# Altium footprint library WCAP-FTBP.PcbLib: 26 footprints (part 2 of 2)
Each footprint in its own frame and in the unit in brackets; x right, y up, seen from the top. Pads: shape width x height; smd on the part's side, far side on the other; paste and mask are expansions set on the pad; w line width, h text height; cw(c..) or ccw(c..) is an arc to the next point about the centre after c.
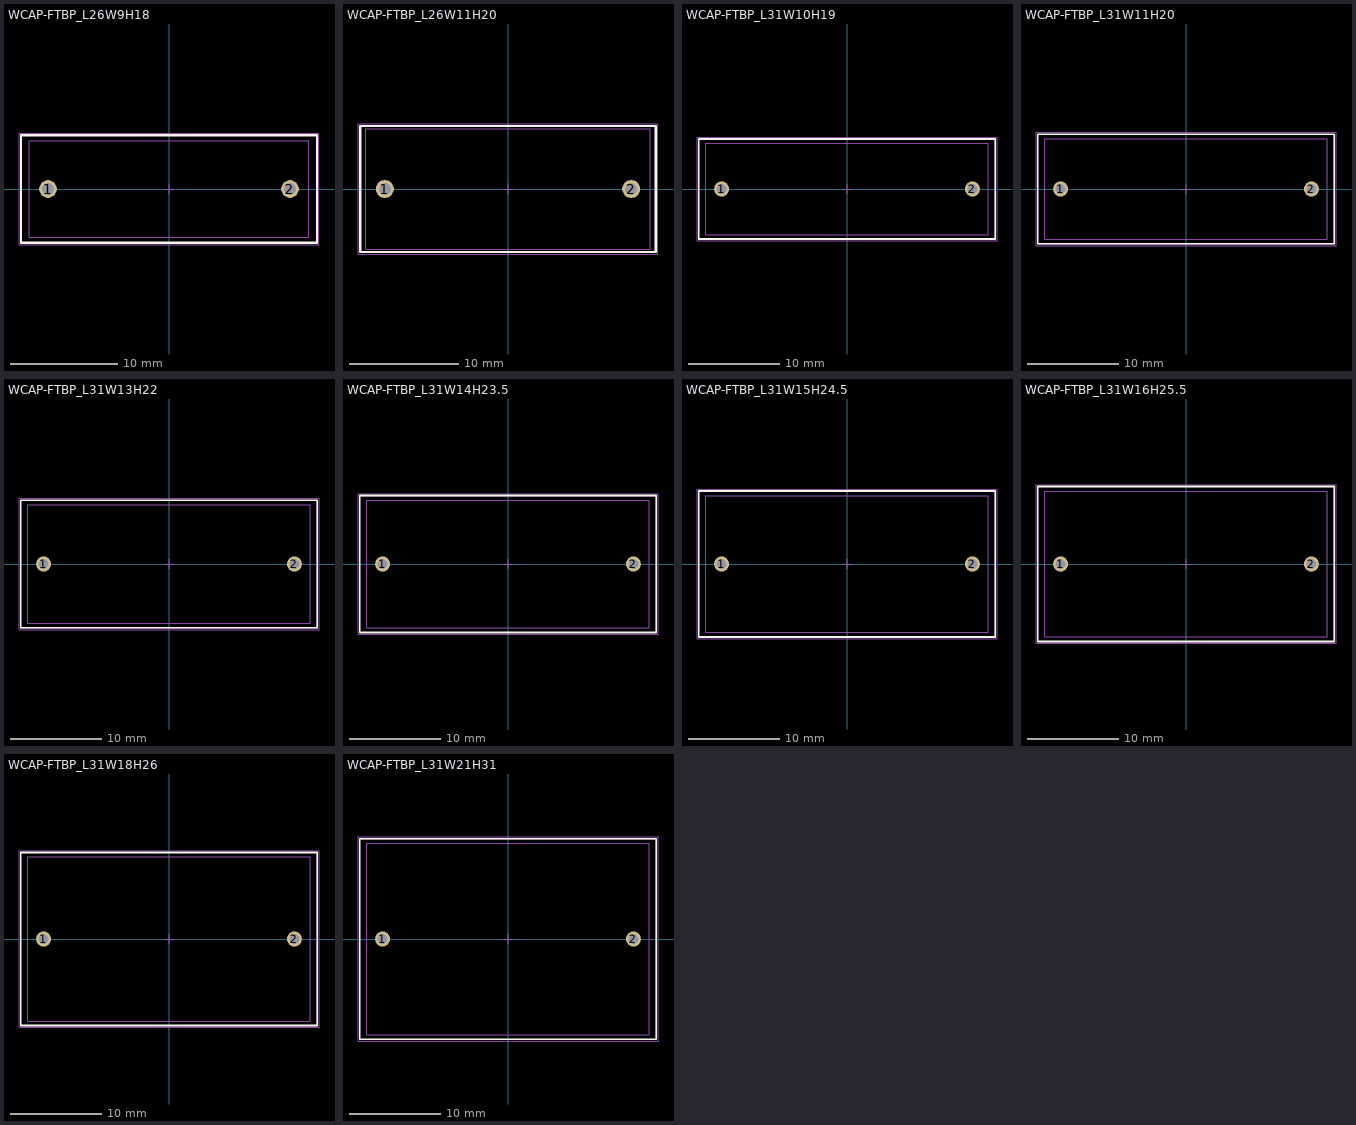
[diagram p1: the footprints below, top view; thin cyan lines are the x and y axes]

## WCAP-FTBP_L26W9H18 [mm] "Film Capacitors, 26.00 x 9.00 mm"
height 18
pads (2):
  round 1.65 hole 1.1: 1(-11.25,0) 2(11.25,0)
Top Overlay:
  lines w0.2: -13.75,-5 13.75,-5 13.75,5 -13.75,5 -13.75,-5
Top Assembly:
  lines w0.1: -13.75,-5 13.75,-5 13.75,5 -13.75,5 -13.75,-5
Top Designator:
  text ".Designator" at -3.647,-0.357 h1
Top 3D Body:
  lines w0.1: -13,-4.5 13,-4.5 13,4.5 -13,4.5 -13,-4.5
Top Courtyard:
  lines w0.05: -13.95,-5.2 13.95,-5.2 13.95,5.2 -13.95,5.2 -13.95,-5.2
Top Component Center:
  lines w0.1: -0.5,0 0.5,0 ; 0,-0.5 0,0.5
3D body "22,5x26x9x18.stp": height 18.05, standoff -3.95, extent -13,-4.5 13,4.5

## WCAP-FTBP_L26W11H20 [mm] "Film Capacitors, 26.00 x 11.00 mm"
height 20
pads (2):
  round 1.65 hole 1.1: 1(-11.25,0) 2(11.25,0)
Top Overlay:
  lines w0.2: -13.5,-5.75 -13.5,5.75 13.5,5.75 13.5,-5.75 -13.5,-5.75
Top Assembly:
  lines w0.1: -13.5,-5.75 -13.5,5.75 13.5,5.75 13.5,-5.75 -13.5,-5.75
Top Designator:
  text ".Designator" at -3.647,-0.357 h1
Top 3D Body:
  lines w0.1: -13,-5.5 -13,5.5 13,5.5 13,-5.5 -13,-5.5
Top Courtyard:
  lines w0.05: -13.7,-5.95 -13.7,5.95 13.7,5.95 13.7,-5.95 -13.7,-5.95
Top Component Center:
  lines w0.1: -0.5,0 0.5,0 ; 0,-0.5 0,0.5
3D body "22,5x26x11x20.stp": height 20.1, standoff -3.9, extent -13,-5.5 13,5.5

## WCAP-FTBP_L31W10H19 [mm] "Film Capacitors, 31.00 x 10.00 mm"
height 19
pads (2):
  round 1.65 hole 1.1: 1(-13.75,0) 2(13.75,0)
Top Overlay:
  lines w0.2: -16.25,-5.5 -16.25,5.5 16.25,5.5 16.25,-5.5 -16.25,-5.5
Top Assembly:
  lines w0.1: -16.25,-5.5 -16.25,5.5 16.25,5.5 16.25,-5.5 -16.25,-5.5
Top Designator:
  text ".Designator" at -3.647,-0.357 h1
Top 3D Body:
  lines w0.1: -15.5,-5 15.5,-5 15.5,5 -15.5,5 -15.5,-5
Top Courtyard:
  lines w0.05: -16.45,-5.7 16.45,-5.7 16.45,5.7 -16.45,5.7 -16.45,-5.7
Top Component Center:
  lines w0.1: -0.5,0 0.5,0 ; 0,-0.5 0,0.5
3D body "27,5x31x10x19.stp": height 19.05, standoff -3.95, extent -15.5,-5 15.5,5

## WCAP-FTBP_L31W11H20 [mm] "Film Capacitors, 31.00 x 11.00 mm"
height 20
pads (2):
  round 1.65 hole 1.1: 1(-13.75,0) 2(13.75,0)
Top Overlay:
  lines w0.2: -16.25,-6 16.25,-6 16.25,6 -16.25,6 -16.25,-6
Top Assembly:
  lines w0.1: -16.25,-6 16.25,-6 16.25,6 -16.25,6 -16.25,-6
Top Designator:
  text ".Designator" at -3.647,-0.357 h1
Top 3D Body:
  lines w0.1: -15.5,-5.5 -15.5,5.5 15.5,5.5 15.5,-5.5 -15.5,-5.5
Top Courtyard:
  lines w0.05: -16.45,-6.2 16.45,-6.2 16.45,6.2 -16.45,6.2 -16.45,-6.2
Top Component Center:
  lines w0.1: -0.5,0 0.5,0 ; 0,-0.5 0,0.5
3D body "27,5x31x11x20.stp": height 20.1, standoff -3.9, extent -15.5,-5.5 15.5,5.5

## WCAP-FTBP_L31W13H22 [mm] "Film Capacitors, 31.00 x 13.00 mm"
height 22
pads (2):
  round 1.65 hole 1.1: 1(-13.75,0) 2(13.75,0)
Top Overlay:
  lines w0.2: -16.25,-7 16.25,-7 16.25,7 -16.25,7 -16.25,-7
Top Assembly:
  lines w0.1: -16.25,-7 16.25,-7 16.25,7 -16.25,7 -16.25,-7
Top Designator:
  text ".Designator" at -3.647,-0.357 h1
Top 3D Body:
  lines w0.1: -15.5,-6.5 -15.5,6.5 15.5,6.5 15.5,-6.5 -15.5,-6.5
Top Courtyard:
  lines w0.05: -16.45,-7.2 16.45,-7.2 16.45,7.2 -16.45,7.2 -16.45,-7.2
Top Component Center:
  lines w0.1: -0.5,0 0.5,0 ; 0,-0.5 0,0.5
3D body "27,5x31x13x22.stp": height 22.05, standoff -3.95, extent -15.5,-6.5 15.5,6.5

## WCAP-FTBP_L31W14H23.5 [mm] "Film Capacitors, 31.00 x 14.00 mm"
height 23.5
pads (2):
  round 1.65 hole 1.1: 1(-13.75,0) 2(13.75,0)
Top Overlay:
  lines w0.2: -16.25,-7.5 -16.25,7.5 16.25,7.5 16.25,-7.5 -16.25,-7.5
Top Assembly:
  lines w0.1: -16.25,-7.5 -16.25,7.5 16.25,7.5 16.25,-7.5 -16.25,-7.5
Top Designator:
  text ".Designator" at -3.647,-0.357 h1
Top 3D Body:
  lines w0.1: -15.5,-7 15.5,-7 15.5,7 -15.5,7 -15.5,-7
Top Courtyard:
  lines w0.05: -16.45,-7.7 -16.45,7.7 16.45,7.7 16.45,-7.7 -16.45,-7.7
Top Component Center:
  lines w0.1: -0.5,0 0.5,0 ; 0,-0.5 0,0.5
3D body "27,5x31x14x23,5.stp": height 23.55, standoff -3.95, extent -15.5,-7 15.5,7

## WCAP-FTBP_L31W15H24.5 [mm] "Film Capacitors, 31.00 x 15.00 mm"
height 24.5
pads (2):
  round 1.65 hole 1.1: 1(-13.75,0) 2(13.75,0)
Top Overlay:
  lines w0.2: -16.25,-8 16.25,-8 16.25,8 -16.25,8 -16.25,-8
Top Assembly:
  lines w0.1: -16.25,-8 16.25,-8 16.25,8 -16.25,8 -16.25,-8
Top Designator:
  text ".Designator" at -3.647,-0.357 h1
Top 3D Body:
  lines w0.1: -15.5,-7.5 -15.5,7.5 15.5,7.5 15.5,-7.5 -15.5,-7.5
Top Courtyard:
  lines w0.05: -16.45,-8.2 -16.45,8.2 16.45,8.2 16.45,-8.2 -16.45,-8.2
Top Component Center:
  lines w0.1: -0.5,0 0.5,0 ; 0,-0.5 0,0.5
3D body "27,5x31x15x24,5.stp": height 24.55, standoff -3.95, extent -15.5,-7.5 15.5,7.5

## WCAP-FTBP_L31W16H25.5 [mm] "Film Capacitors, 31.00 x 16.00 mm"
height 25.5
pads (2):
  round 1.65 hole 1.1: 1(-13.75,0) 2(13.75,0)
Top Overlay:
  lines w0.2: -16.25,-8.5 -16.25,8.5 16.25,8.5 16.25,-8.5 -16.25,-8.5
Top Assembly:
  lines w0.1: -16.25,-8.5 -16.25,8.5 16.25,8.5 16.25,-8.5 -16.25,-8.5
Top Designator:
  text ".Designator" at -3.647,-0.357 h1
Top 3D Body:
  lines w0.1: -15.5,-8 -15.5,8 15.5,8 15.5,-8 -15.5,-8
Top Courtyard:
  lines w0.05: -16.45,-8.7 16.45,-8.7 16.45,8.7 -16.45,8.7 -16.45,-8.7
Top Component Center:
  lines w0.1: -0.5,0 0.5,0 ; 0,-0.5 0,0.5
3D body "27,5x31x16x25,5.stp": height 25.55, standoff -3.95, extent -15.5,-8 15.5,8

## WCAP-FTBP_L31W18H26 [mm] "Film Capacitors, 31.00 x 18.00mm"
height 26
pads (2):
  round 1.65 hole 1.1: 1(-13.75,0) 2(13.75,0)
Top Overlay:
  lines w0.2: -16.25,-9.5 -16.25,9.5 16.25,9.5 16.25,-9.5 -16.25,-9.5
Top Assembly:
  lines w0.1: -16.25,-9.5 -16.25,9.5 16.25,9.5 16.25,-9.5 -16.25,-9.5
Top Designator:
  text ".Designator" at -3.647,-0.357 h1
Top 3D Body:
  lines w0.1: -15.5,-9 15.5,-9 15.5,9 -15.5,9 -15.5,-9
Top Courtyard:
  lines w0.05: -16.45,-9.7 16.45,-9.7 16.45,9.7 -16.45,9.7 -16.45,-9.7
Top Component Center:
  lines w0.1: -0.5,0 0.5,0 ; 0,-0.5 0,0.5
3D body "27,5x31x18x26.stp": height 26.05, standoff -3.95, extent -15.5,-9 15.5,9

## WCAP-FTBP_L31W21H31 [mm] "Film Capacitors, 31.00 x 21.00mm"
height 31
pads (2):
  round 1.65 hole 1.1: 1(-13.75,0) 2(13.75,0)
Top Overlay:
  lines w0.2: -16.25,-11 -16.25,11 16.25,11 16.25,-11 -16.25,-11
Top Assembly:
  lines w0.1: -16.25,-11 -16.25,11 16.25,11 16.25,-11 -16.25,-11
Top Designator:
  text ".Designator" at -3.647,-0.357 h1
Top 3D Body:
  lines w0.1: -15.5,-10.5 15.5,-10.5 15.5,10.5 -15.5,10.5 -15.5,-10.5
Top Courtyard:
  lines w0.05: -16.45,-11.2 16.45,-11.2 16.45,11.2 -16.45,11.2 -16.45,-11.2
Top Component Center:
  lines w0.1: -0.5,0 0.5,0 ; 0,-0.5 0,0.5
3D body "27,5x31x21x31.stp": height 31.1, standoff -3.9, extent -15.5,-10.5 15.5,10.5